# EAGLE library part ADC3908D025IRSMT (library My_Library_2)
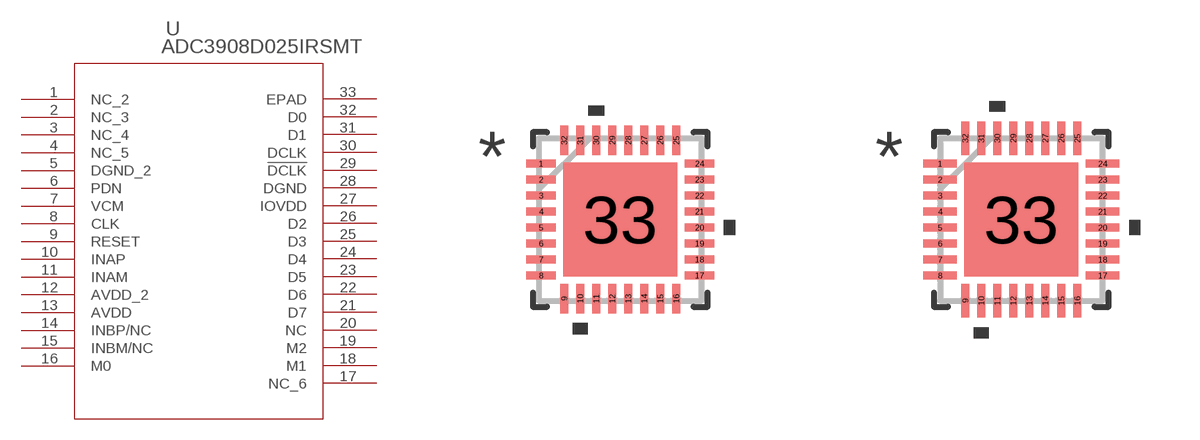
[diagram p13: symbol with the pads of VQFN32_RSM-B_TEX; footprints VQFN32_RSM-B_TEX, VQFN32_RSM-B_TEX-M]

Designator prefix U

## ADC3908D025IRSMT (COPYRIGHT: Copyright (C) 2025 Ultra Librarian. All rights reserved.; MANUFACTURER_PART_NUMBER: ADC3908D025IRSMT; MFR_NAME: Texas Instruments)  [VQFN32_RSM-B_TEX]
1  NC_2  nc
2  NC_3  nc
3  NC_4  nc
4  NC_5  nc
5  DGND_2  pas
6  PDN  in
7  VCM  out
8  CLK  in
9  RESET  in
10  INAP  in
11  INAM  in
12  AVDD_2  pwr
13  AVDD  pwr
14  INBP/NC  in
15  INBM/NC  in
16  M0  in
17  NC_6  nc
18  M1  in
19  M2  in
20  NC  nc
21  D7  out
22  D6  out
23  D5  out
24  D4  out
25  D3  out
26  D2  out
27  IOVDD  in
28  DGND  pas
29  !DCLK  out
30  DCLK  out
31  D1  out
32  D0  out
33  EPAD  pas

## ADC3908D025IRSMTVQFN32_RSM-B_TEX-M (COPYRIGHT: Copyright (C) 2025 Ultra Librarian. All rights reserved.; MANUFACTURER_PART_NUMBER: ADC3908D025IRSMT; MFR_NAME: Texas Instruments)  [VQFN32_RSM-B_TEX-M]
Pads as for VQFN32_RSM-B_TEX

## ADC3908D025IRSMTVQFN32_RSM-B_TEX-L (COPYRIGHT: Copyright (C) 2025 Ultra Librarian. All rights reserved.; MANUFACTURER_PART_NUMBER: ADC3908D025IRSMT; MFR_NAME: Texas Instruments)  [VQFN32_RSM-B_TEX-L]
Pads as for VQFN32_RSM-B_TEX

## Footprint VQFN32_RSM-B_TEX (pad centres in mm)
smd 0.737 x 0.203: 1 -1.981,1.4; 2 -1.981,1; 3 -1.981,0.6; 4 -1.981,0.2; 5 -1.981,-0.2; 6 -1.981,-0.6; 7 -1.981,-1; 8 -1.981,-1.4; 17 1.981,-1.4; 18 1.981,-1; 19 1.981,-0.6; 20 1.981,-0.2; 21 1.981,0.2; 22 1.981,0.6; 23 1.981,1; 24 1.981,1.4
smd 0.203 x 0.737: 9 -1.4,-1.981; 10 -1,-1.981; 11 -0.6,-1.981; 12 -0.2,-1.981; 13 0.2,-1.981; 14 0.6,-1.981; 15 1,-1.981; 16 1.4,-1.981; 25 1.4,1.981; 26 1,1.981; 27 0.6,1.981; 28 0.2,1.981; 29 -0.2,1.981; 30 -0.6,1.981; 31 -1,1.981; 32 -1.4,1.981
smd 2.845 x 2.845: 33 0,0

## Footprint VQFN32_RSM-B_TEX-M (pad centres in mm)
smd 0.838 x 0.203: 1 -2.032,1.4; 2 -2.032,1; 3 -2.032,0.6; 4 -2.032,0.2; 5 -2.032,-0.2; 6 -2.032,-0.6; 7 -2.032,-1; 8 -2.032,-1.4; 17 2.032,-1.4; 18 2.032,-1; 19 2.032,-0.6; 20 2.032,-0.2; 21 2.032,0.2; 22 2.032,0.6; 23 2.032,1; 24 2.032,1.4
smd 0.203 x 0.838: 9 -1.4,-2.032; 10 -1,-2.032; 11 -0.6,-2.032; 12 -0.2,-2.032; 13 0.2,-2.032; 14 0.6,-2.032; 15 1,-2.032; 16 1.4,-2.032; 25 1.4,2.032; 26 1,2.032; 27 0.6,2.032; 28 0.2,2.032; 29 -0.2,2.032; 30 -0.6,2.032; 31 -1,2.032; 32 -1.4,2.032
smd 2.845 x 2.845: 33 0,0

## Footprint VQFN32_RSM-B_TEX-L (pad centres in mm)
smd 0.635 x 0.203: 1 -1.93,1.4; 2 -1.93,1; 3 -1.93,0.6; 4 -1.93,0.2; 5 -1.93,-0.2; 6 -1.93,-0.6; 7 -1.93,-1; 8 -1.93,-1.4; 17 1.93,-1.4; 18 1.93,-1; 19 1.93,-0.6; 20 1.93,-0.2; 21 1.93,0.2; 22 1.93,0.6; 23 1.93,1; 24 1.93,1.4
smd 0.203 x 0.635: 9 -1.4,-1.93; 10 -1,-1.93; 11 -0.6,-1.93; 12 -0.2,-1.93; 13 0.2,-1.93; 14 0.6,-1.93; 15 1,-1.93; 16 1.4,-1.93; 25 1.4,1.93; 26 1,1.93; 27 0.6,1.93; 28 0.2,1.93; 29 -0.2,1.93; 30 -0.6,1.93; 31 -1,1.93; 32 -1.4,1.93
smd 2.845 x 2.845: 33 0,0